# Altium footprint library PCB - LEADLESS - QFN - STMICRO VFQFPN-36 6X6MM.PCBLIB: 1 footprints
Each footprint in its own frame and in the unit in brackets; x right, y up, seen from the top. Pads: shape width x height; smd on the part's side, far side on the other; paste and mask are expansions set on the pad; w line width, h text height; cw(c..) or ccw(c..) is an arc to the next point about the centre after c.
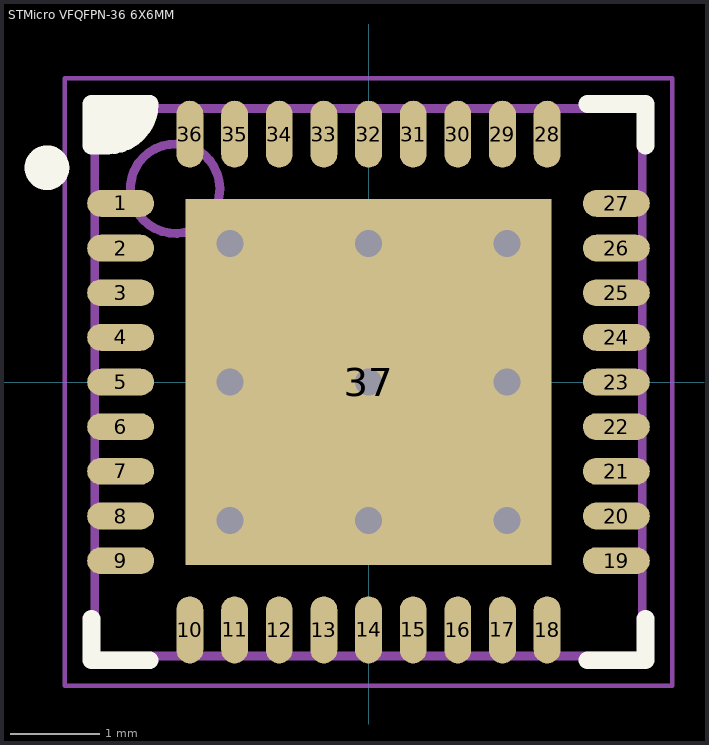
[diagram p0: the footprint, top view; thin cyan lines are the x and y axes]

## STMicro VFQFPN-36 6X6MM [mm] "QFN, 36-Leads, Body 6.00x6.00mm, Pitch 0.45mm/0.55mm, Thermal Pad 4.10x4.10mm, IPC Medium Density"
height 1
pads (37):
  oval 0.75x0.3 smd: 1(-2.775,2) 2(-2.775,1.5) 3(-2.775,1) 4(-2.775,0.5) 5(-2.775,0) 6(-2.775,-0.5) 7(-2.775,-1) 8(-2.775,-1.5) 9(-2.775,-2) 19(2.775,-2) 20(2.775,-1.5) 21(2.775,-1) 22(2.775,-0.5) 23(2.775,0) 24(2.775,0.5) 25(2.775,1) 26(2.775,1.5) 27(2.775,2)
  oval 0.3x0.75 smd: 10(-2,-2.775) 11(-1.5,-2.775) 12(-1,-2.775) 13(-0.5,-2.775) 14(0,-2.775) 15(0.5,-2.775) 16(1,-2.775) 17(1.5,-2.775) 18(2,-2.775) 28(2,2.775) 29(1.5,2.775) 30(1,2.775) 31(0.5,2.775) 32(0,2.775) 33(-0.5,2.775) 34(-1,2.775) 35(-1.5,2.775) 36(-2,2.775)
  rect 4.1x4.1 smd paste-2539.97 mask+0.102: 37(0,0)
via 1.55,-1.55 diameter 0.6 hole 0.3
via -1.55,-1.55 diameter 0.6 hole 0.3
via 1.55,0 diameter 0.6 hole 0.3
via 0,0 diameter 0.6 hole 0.3
via -1.55,0 diameter 0.6 hole 0.3
via 1.55,1.55 diameter 0.6 hole 0.3
via -1.55,1.55 diameter 0.6 hole 0.3
via 0,1.55 diameter 0.6 hole 0.3
via 0,-1.55 diameter 0.6 hole 0.3
Top Overlay:
  circle w0.25: c-3.6,2.4 r0.125
  region: -3.1,3.115 -2.45,3.115 -2.45,3.023 -2.521,2.852 -2.652,2.721 -2.823,2.65 -2.915,2.65 -3.1,2.65
  lines w0.2: -3.1,-2.65 -3.1,-3.115 -2.45,-3.115 ; 2.45,-3.115 3.1,-3.115 3.1,-2.65 ; 2.45,3.115 3.1,3.115 3.1,2.65 ; -3.1,2.65 -3.1,3.115 -2.45,3.115 cw(c-2.915,3.115) -2.915,2.65 -3.1,2.65
Top Paste:
  drawing of 4 lines, arcs and shapes, not listed
Top Solder:
  region: -1,2 -1,1.5 -1.01,1.402 -1.084,1.222 -1.222,1.084 -1.402,1.01 -1.5,1 -2,1 -2,0.5 -1.5,0.5 -1.415,0.493 -1.254,0.436 -1.122,0.328 -1.034,0.182 -1.01,0.1 -0.49,0.1 -0.466,0.182 -0.378,0.328 -0.246,0.435 -0.085,0.493 0,0.5 0.085,0.493 0.246,0.436 0.378,0.328 0.466,0.182 0.49,0.1 1.01,0.1 1.034,0.182 1.122,0.328 1.254,0.436 1.415,0.493 1.5,0.5 2,0.5 2,1 1.5,1 1.402,1.01 1.222,1.084 1.084,1.222 1.01,1.402 1,1.5 1,2 0.5,2 0.5,1.5 0.49,1.402 0.416,1.222 0.278,1.084 0.098,1.01 0,1 -0.098,1.01 -0.278,1.084 -0.416,1.222 -0.49,1.402 -0.5,1.5 -0.5,2
  region: -1,-2 -1,-1.5 -1.01,-1.402 -1.084,-1.222 -1.222,-1.084 -1.402,-1.01 -1.5,-1 -2,-1 -2,-0.5 -1.5,-0.5 -1.415,-0.493 -1.254,-0.436 -1.122,-0.328 -1.034,-0.182 -1.01,-0.1 -0.49,-0.1 -0.466,-0.182 -0.378,-0.328 -0.246,-0.436 -0.085,-0.493 0,-0.5 0.085,-0.493 0.246,-0.436 0.378,-0.328 0.466,-0.182 0.49,-0.1 1.01,-0.1 1.034,-0.182 1.122,-0.328 1.254,-0.436 1.415,-0.493 1.5,-0.5 2,-0.5 2,-1 1.5,-1 1.402,-1.01 1.222,-1.084 1.084,-1.222 1.01,-1.402 1,-1.5 1,-2 0.5,-2 0.5,-1.5 0.49,-1.402 0.416,-1.222 0.278,-1.084 0.098,-1.01 0,-1 -0.098,-1.01 -0.278,-1.084 -0.416,-1.222 -0.49,-1.402 -0.5,-1.5 -0.5,-2
Mechanical 13:
  circle w0.1: c-2.165,2.165 r0.5
  lines w0.1: -3.065,-3.065 3.065,-3.065 3.065,3.065 -3.065,3.065 -3.065,-3.065
Mechanical 15:
  lines w0.05: -3.4,-3.4 3.4,-3.4 3.4,3.4 -3.4,3.4 -3.4,-3.4
  lines w0.1: -0.5,0 0.5,0 ; 0,-0.5 0,0.5
3D body "STMicro VFQFPN-36 6X6MM.step": height 1, standoff -0.01, extent -3.073,-3.073 3.073,3.073